# EAGLE library part 87760-10 (library untitled)
HEADER
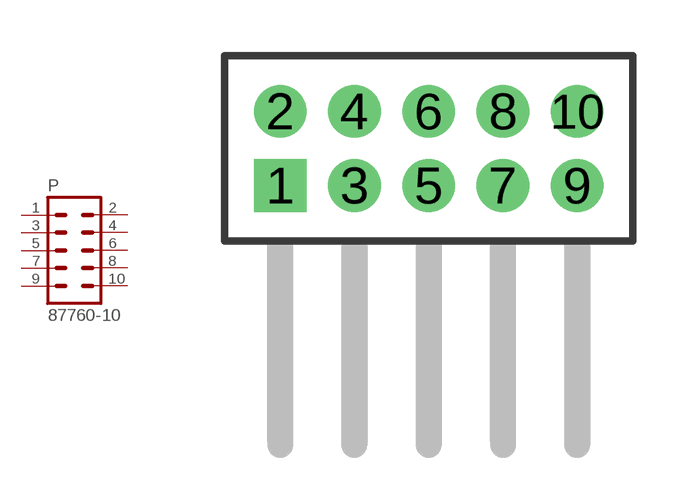
[diagram p43: symbol with the pads of 87760-10; footprint 87760-10]

Designator prefix P

## 87760-10  [87760-10]
1  1  pas
2  2  pas
3  3  pas
4  4  pas
5  5  pas
6  6  pas
7  7  pas
8  8  pas
9  9  pas
10  10  pas

## Footprint 87760-10 (pad centres in mm)
HEADER Dual Row, Right Angle
drill 0.914 square: 1 -4,-1
drill 0.914 round: 2 -4,1; 3 -2,-1; 4 -2,1; 5 0,-1; 6 0,1; 7 2,-1; 8 2,1; 9 4,-1; 10 4,1